# Altium footprint library stm32f030_pcb_library.PcbLib: 14 footprints
Each footprint in its own frame and in the unit in brackets; x right, y up, seen from the top. Pads: shape width x height; smd on the part's side, far side on the other; paste and mask are expansions set on the pad; w line width, h text height; cw(c..) or ccw(c..) is an arc to the next point about the centre after c.
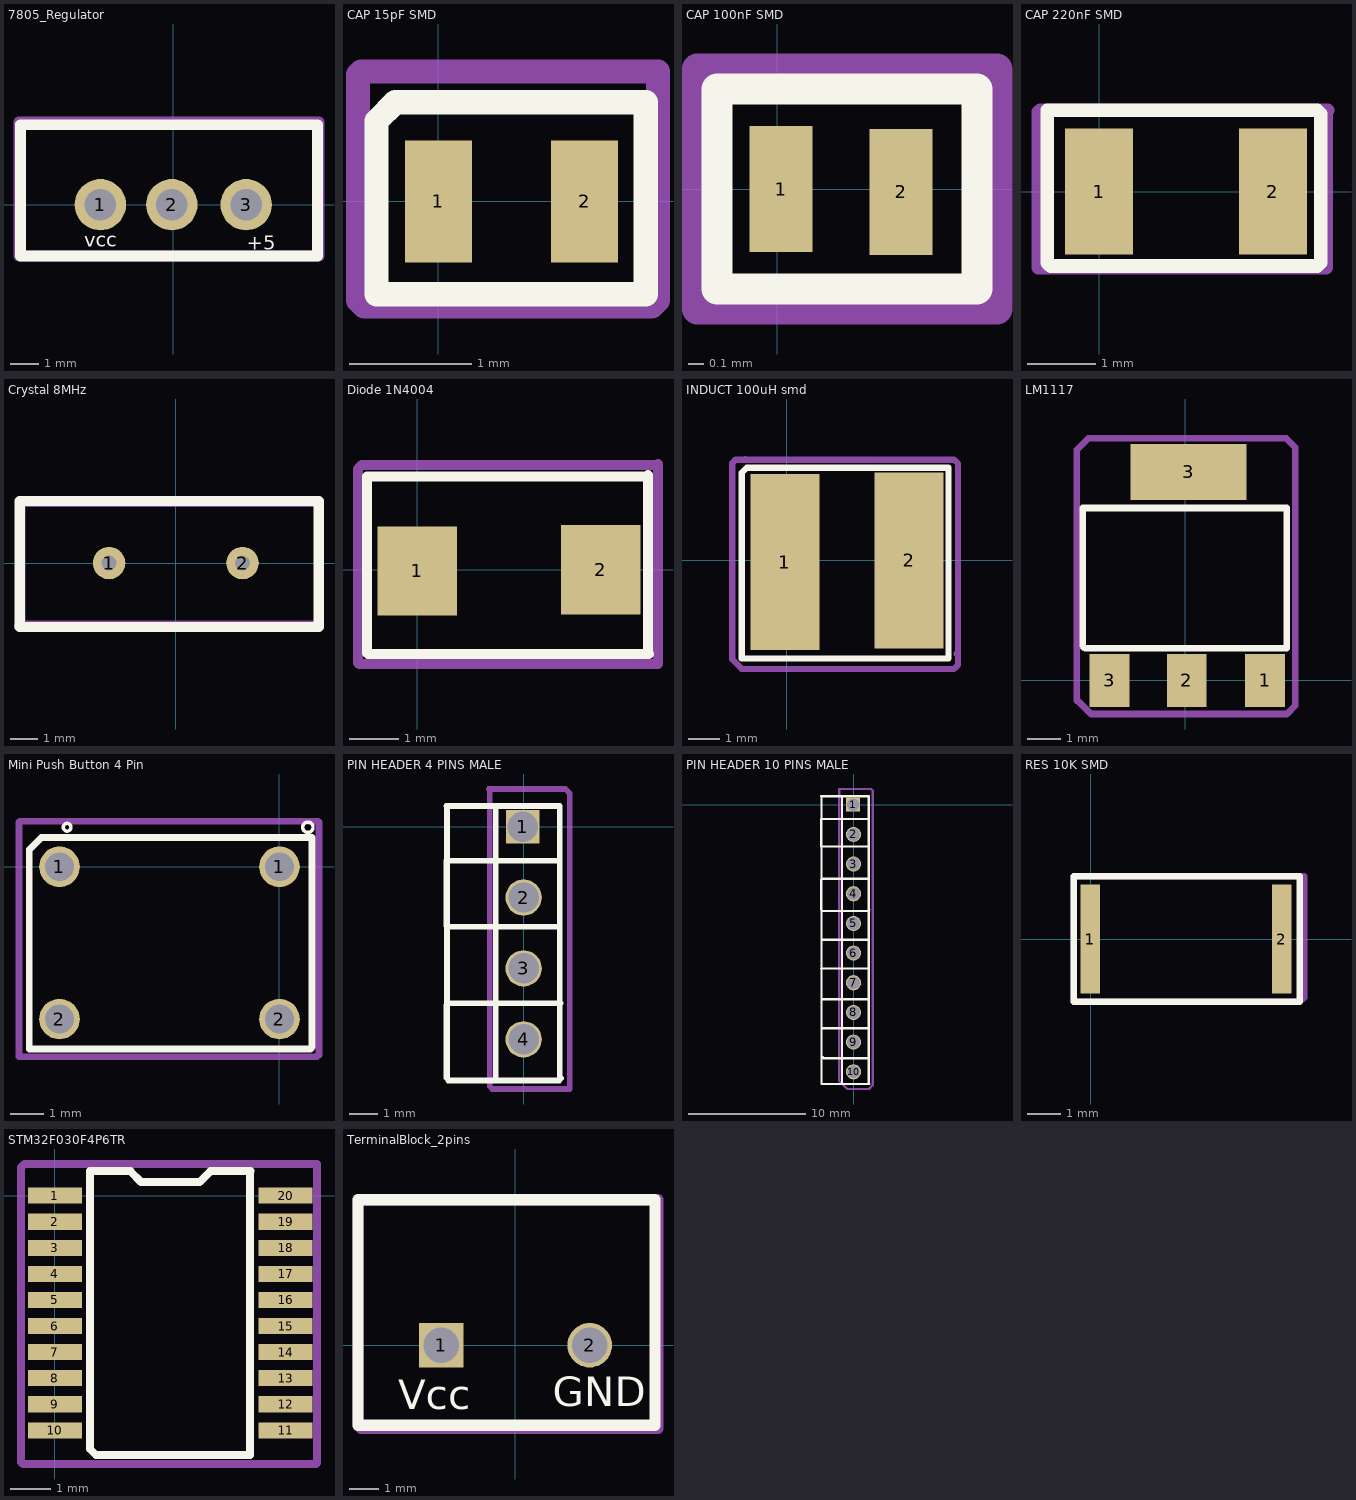
[diagram p0: the footprints below, top view; thin cyan lines are the x and y axes]

## 7805_Regulator [mm]
pads (3):
  round 1.8 hole 1.1: 1(-2.55,0) 2(-0.05,0) 3(2.55,0)
Top Overlay:
  lines w0.381: -5.35,-1.8 5.05,-1.8 5.05,2.8 -5.35,2.8 -5.35,-1.8
  text "vcc" at -3.123,-1.473 h0.5
  text "+5" at 2.577,-1.573 h0.5
Mechanical 29:
  lines w0.381: -5.4,-1.8 -5.4,-1.5 -5.4,2.9 -5.3,2.9 5.1,2.9 5.1,-1.8 -5.4,-1.8
  text ".Designator" at -2.573,1.694 h0.5
3D body "l7805cv.stp": height 20.5, standoff -8.4, extent -5.15,-1.7 5.05,2.8

## CAP 15pF SMD [mm] "50V 15pF C0G ±5% 0603 Multilayer Ceramic Capacitors MLCC – SMD/SMT ROHS"
pads (2):
  rect 0.55x1 smd: 1(0,0) 2(1.2,0)
Top Overlay:
  lines w0.2: -0.508,-0.762 1.702,-0.762 1.702,0.813 -0.356,0.813 -0.508,0.66 -0.508,-0.762
Mechanical 29:
  lines w0.2: -0.66,-0.813 -0.61,-0.864 1.753,-0.864 1.803,-0.813 1.803,1.067 -0.635,1.067 -0.66,1.041 -0.66,-0.813
  text ".Designator" at 0.171,-0.207 h1
3D body "User Library-SMD Ceramic Capacitors_0603 (1608)_CG.STEP": height 0.8, standoff 0, extent -0.216,-0.425 1.384,0.375

## CAP 100nF SMD [mm] "16V 100nF X7R ±10% 0402 Multilayer Ceramic Capacitors MLCC – SMD/SMT ROHS"
pads (2):
  rect 0.4x0.8 smd: 1(0.025,0) 2(0.788,-0.019)
Top Overlay:
  lines w0.2: -0.381,-0.635 1.27,-0.635 1.27,0.635 -0.381,0.635 -0.381,-0.635
Mechanical 29:
  lines w0.2: -0.508,-0.762 1.397,-0.762 1.397,0.762 -0.508,0.762 -0.508,-0.762
  text ".Designator" at 0.145,-0.029 h1
3D body "User Library-SMD Ceramic Capacitors_0402 (1005)_BB.STEP": height 0.5, standoff 0, extent -0.119,-0.25 0.881,0.25

## CAP 220nF SMD [mm] "Multilayer Ceramic Capacitors MLCC – SMD/SMT 220nF ±10 50V 1206"
pads (2):
  rect 1x1.85 smd: 1(0,0) 2(2.55,0)
Top Overlay:
  lines w0.2: -0.762,-1.041 -0.762,1.194 3.2,1.194 3.251,1.143 3.251,-1.041 3.2,-1.092 -0.711,-1.092 -0.762,-1.041
Mechanical 29:
  lines w0.2: -0.889,-1.118 -0.889,1.168 -0.864,1.194 3.353,1.194 3.327,1.168 3.327,-1.118 -0.889,-1.118
  text ".Designator" at 1.06,-0.36 h1
3D body "User Library-SMD Ceramic Capacitors_1206 (3216)_EP.STEP": height 1.2, standoff 0, extent -0.421,-0.825 2.859,0.775

## Crystal 8MHz [mm]
pads (2):
  round 1.2 hole 0.55: 1(-2.46,0) 2(2.46,0)
Top Overlay:
  lines w0.381: -5.75,-2.36 5.27,-2.36 5.27,2.29 -5.75,2.29 -5.75,-2.36
Mechanical 29:
  lines w0.381: -5.78,-2.31 5.28,-2.31 5.28,2.26 -5.73,2.26 -5.73,-2.31 -5.78,-2.31
  text ".Designator" at -5.296,-1.503 h1
3D body "User Library-HC-49_LT_THT.STEP": height 4.6, standoff -0.99, extent -5.675,-2.325 5.675,2.325

## Diode 1N4004 [mm] "Single 1A 1.1V@1A 400V SMA Diodes – General Purpose ROHS"
pads (2):
  rect 1.6x1.8 smd: 1(0,-0.025) 2(3.7,0)
Top Overlay:
  lines w0.2: -1.016,-1.676 -1.016,1.88 4.623,1.88 4.648,1.905 4.648,-1.676 4.674,-1.702 -0.991,-1.702 -1.016,-1.676
Mechanical 29:
  lines w0.2: -1.194,-1.88 -1.194,2.032 -1.118,2.108 4.826,2.108 4.851,2.134 4.851,-1.905 -1.168,-1.905 -1.194,-1.88
  text ".Designator" at 0.018,0.021 h1
3D body "User Library-Diode SMD 1N4007.STEP": height 2.45, standoff 0.02, extent -0.821,-1.555 4.479,1.555

## INDUCT 100uH smd [mm] "510mA 100uH ±10% 611mΩ SMD,5.2x5.8mm Inductors (SMD) ROHS"
pads (2):
  rect 2.2x5.6 smd: 1(-0.051,-0.051) 2(3.9,0)
Top Overlay:
  lines w0.2: -1.422,2.794 -1.422,-3.124 5.156,-3.124 5.156,2.946 -1.27,2.946 ; -1.422,2.794 -1.27,2.946 ; -1.422,2.794 -1.27,2.946
Mechanical 29:
  lines w0.2: -1.321,3.226 -1.346,3.2 -1.626,3.2 ; 5.41,-2.972 5.461,-2.921 ; -1.626,3.2 5.334,3.2 5.461,3.073 5.461,-3.327 5.334,-3.454 -1.422,-3.454 -1.727,-3.15 -1.727,3.099 -1.626,3.2
  text ".Designator" at 0.145,-0.766 h1
3D body "User Library-FPI0504 (5_8 x 5_2 x 4_5).STEP": height 4.5, standoff 0, extent -0.995,-2.6 4.805,2.6

## LM1117 [mm] "3.3 SOT-233 Linear Voltage Regulators (LDO) 3.3V  Output Current 800mA"
pads (4):
  rect 1.2x1.6 smd: 1(2.413,0) 2(0.051,0) 3(-2.286,0)
  rect 3.5x1.7 smd: 3(0.102,6.299)
Top Overlay:
  lines w0.2: -3.099,1.041 -3.099,5.207 3.073,5.207 3.073,0.965 -3.023,0.965 -3.099,1.041
Mechanical 29:
  lines w0.2: -3.277,-0.61 -3.251,-0.635 -3.226,-0.635 -2.845,-1.016 3.073,-1.016 3.327,-0.762 3.327,7.036 3.048,7.315 -2.921,7.315 -3.277,6.96 -3.277,1.118 -3.277,0.965 -3.277,-0.61
  text ".Designator" at -2.014,2.79 h1
3D body "User Library-SOT233.STEP": height 1.75, standoff 0.05, extent -3.248,-0.602 3.452,6.698

## Mini Push Button 4 Pin [mm]
pads (4):
  round 1.2 hole 0.85: 1(-6.5,0) 1(0,0) 2(-6.5,-4.5) 2(0,-4.5)
Top Overlay:
  circle w0.1: c0.838,1.168 r0.155
  circle w0.1: c-6.274,1.168 r0.114
  lines w0.2: -7.391,-5.385 0.914,-5.385 0.965,-5.334 0.965,0.864 -7.036,0.864 -7.391,0.508 -7.391,-5.385
Mechanical 29:
  lines w0.2: -7.696,-5.613 -7.696,1.321 -7.671,1.346 1.143,1.346 1.168,1.321 1.168,-5.563 1.118,-5.613 -7.696,-5.613
  text ".Designator" at -6.535,-2.011 h1
3D body "xb-ts-1102s-4pl.stp": height 9.5, standoff -2.2, extent -6.5,-5.136 0.1,0.864

## PIN HEADER 4 PINS MALE [mm] "Through Hole 1way 4pins"
pads (4):
  rect 1.2x1.2 hole 1.09: 1(-0.025,0)
  round 1.3 hole 1.09: 2(0,-2.54) 3(0,-5.08) 4(0,-7.62)
Top Overlay:
  lines w0.2: -2.692,-9.093 -2.692,-9.068 -2.743,-9.017 -2.743,0.711 -2.769,0.737 -0.991,0.737 ; -0.991,-9.042 -0.991,0.737 ; 1.27,-3.581 -2.743,-3.581 -2.769,-3.556 -2.769,-1.219 1.27,-1.219 ; 1.295,-9.055 1.295,0.737 -0.991,0.737 ; 1.321,-6.325 -2.692,-6.325 -2.769,-6.401 -2.769,-8.992 -2.667,-9.093 1.27,-9.093 1.346,-9.017
Mechanical 29:
  lines w0.2: -1.245,1.346 -1.219,1.321 -1.219,-9.296 -1.118,-9.398 1.651,-9.398 1.651,1.194 1.499,1.346 -1.245,1.346
  text ".Designator" at -0.185,-6.481 h1
3D body "User Library-Header_Male_2Pin.STEP": height 8.54, standoff -3, extent -1.245,-8.89 1.245,-3.81
3D body "User Library-Header_Male_2Pin.STEP": height 8.54, standoff -3, extent -1.27,-3.81 1.22,1.27

## PIN HEADER 10 PINS MALE [mm] "Through Hole 1way 10pins"
pads (10):
  rect 1.2x1.2 hole 1.09: 1(-0.025,0)
  round 1.3 hole 1.09: 2(0,-2.54) 3(0,-5.08) 4(0,-7.62) 5(0,-10.16) 6(0,-12.7) 7(0,-15.24) 8(0,-17.78) 9(0,-20.32) 10(0,-22.86)
Top Overlay:
  lines w0.2: -2.769,-14.021 1.27,-14.021 ; -2.743,-19.177 -2.692,-19.126 1.27,-19.126 ; -2.743,-11.595 -2.705,-11.557 1.295,-11.557 ; -2.718,-16.713 -2.667,-16.662 1.321,-16.662 ; -2.642,-21.615 -2.565,-21.692 1.194,-21.692 ; -0.991,-23.901 -0.991,0.737 ; 1.27,-3.581 -2.743,-3.581 -2.769,-3.556 -2.769,-1.219 1.27,-1.219 ; 1.321,-6.325 -2.692,-6.325 -2.769,-6.401 -2.769,-8.992 -2.667,-9.093 1.27,-9.093 1.346,-9.017 ; -0.991,0.737 1.295,0.737 1.295,-23.851 1.346,-23.901 -2.743,-23.901 -2.743,0.711 -2.769,0.737 -0.991,0.737
Mechanical 29:
  lines w0.2: -1.245,1.346 -1.219,1.321 -1.219,-23.647 -0.533,-24.333 1.321,-24.333 1.651,-24.003 1.651,1.194 1.499,1.346 -1.245,1.346
  text ".Designator" at -0.185,-6.481 h1
3D body "User Library-Header_Male_2Pin.STEP": height 8.54, standoff -3, extent -1.245,-24.13 1.245,-19.05
3D body "User Library-Header_Male_2Pin.STEP": height 8.54, standoff -3, extent -1.245,-19.05 1.245,-13.97
3D body "User Library-Header_Male_2Pin.STEP": height 8.54, standoff -3, extent -1.245,-13.97 1.245,-8.89
3D body "User Library-Header_Male_2Pin.STEP": height 8.54, standoff -3, extent -1.245,-8.89 1.245,-3.81
3D body "User Library-Header_Male_2Pin.STEP": height 8.54, standoff -3, extent -1.27,-3.81 1.22,1.27

## RES 10K SMD [mm] "FRC2512J103 TS    SMD 10KΩ ±5% 1W ±100ppm/℃ 2512"
pads (2):
  rect 0.6x3.3 smd: 1(-0.01,0) 2(5.8,0)
Top Overlay:
  lines w0.2: -0.508,-1.905 -0.508,-1.651 -0.508,1.905 6.35,1.905 6.35,-1.905 -0.508,-1.905
Mechanical 29:
  lines w0.2: -0.508,-1.905 -0.508,1.905 6.477,1.905 6.477,-1.778 6.35,-1.905 -0.508,-1.905
  text ".Designator" at 0.78,-0.41 h1
3D body "68495.stp": height 0.6, standoff 0, extent -0.229,-1.55 6.071,1.55

## STM32F030F4P6TR [mm] "16KB 2.4V~3.6V CM0 4KB 48MHz FLASH 15 TSSOP-20 Microcontroller Units (MCUs/MPUs/SOCs) ROHSGGGQQQ"
pads (20):
  rect 1.35x0.4 smd: 1(0,0) 2(0,-0.65) 3(0,-1.3) 4(0,-1.95) 5(0,-2.6) 6(0,-3.25) 7(0,-3.9) 8(0,-4.55) 9(0,-5.2) 10(0,-5.85) 11(5.75,-5.85) 12(5.75,-5.2) 13(5.75,-4.55) 14(5.75,-3.9) 15(5.75,-3.25) 16(5.75,-2.6) 17(5.75,-1.95) 18(5.75,-1.3) 19(5.75,-0.65) 20(5.75,0)
Top Overlay:
  lines w0.2: 0.88,-6.32 0.88,0.61 1.88,0.61 2.15,0.34 3.61,0.34 3.88,0.61 4.88,0.61 4.87,0.6 4.87,-6.47 1.03,-6.47 0.88,-6.32
Mechanical 29:
  lines w0.2: -0.85,-6.64 -0.8,-6.69 6.51,-6.69 6.54,-6.66 6.54,0.78 6.53,0.79 -0.76,0.79 -0.85,0.7 -0.85,-6.64
  text ".Designator" at 1.312,-2.804 h1
3D body "User Library-TSSOP20_TP.STEP": height 1.1, standoff -0.09, extent -0.19,-6.25 6.09,0.25

## TerminalBlock_2pins [mm]
pads (2):
  rect 1.5x1.5 hole 1.2: 1(-2.5,0)
  round 1.5 hole 1.2: 2(2.5,0)
Top Overlay:
  lines w0.381: -5.3,-2.7 -5.3,4.9 4.7,4.9 4.7,-2.7 -5.3,-2.7
  text "GND" at 1.25,-2.05 h1
  text "Vcc" at -3.95,-2.15 h1
Mechanical 29:
  lines w0.381: -5.3,-2.7 -5.3,4.9 4.8,4.9 4.8,-2.8 -5.2,-2.8 -5.2,-2.7 -5.3,-2.7
  text ".Designator" at -5.1,1.633 h1
3D body "User Library-bornera-1.STEP": height 11, standoff -2.75, extent -5.5,-2.6 5,5